# Altium footprint library ICs.PcbLib: 32 footprints (part 1 of 2)
Each footprint in its own frame and in the unit in brackets; x right, y up, seen from the top. Pads: shape width x height; smd on the part's side, far side on the other; paste and mask are expansions set on the pad; w line width, h text height; cw(c..) or ccw(c..) is an arc to the next point about the centre after c.
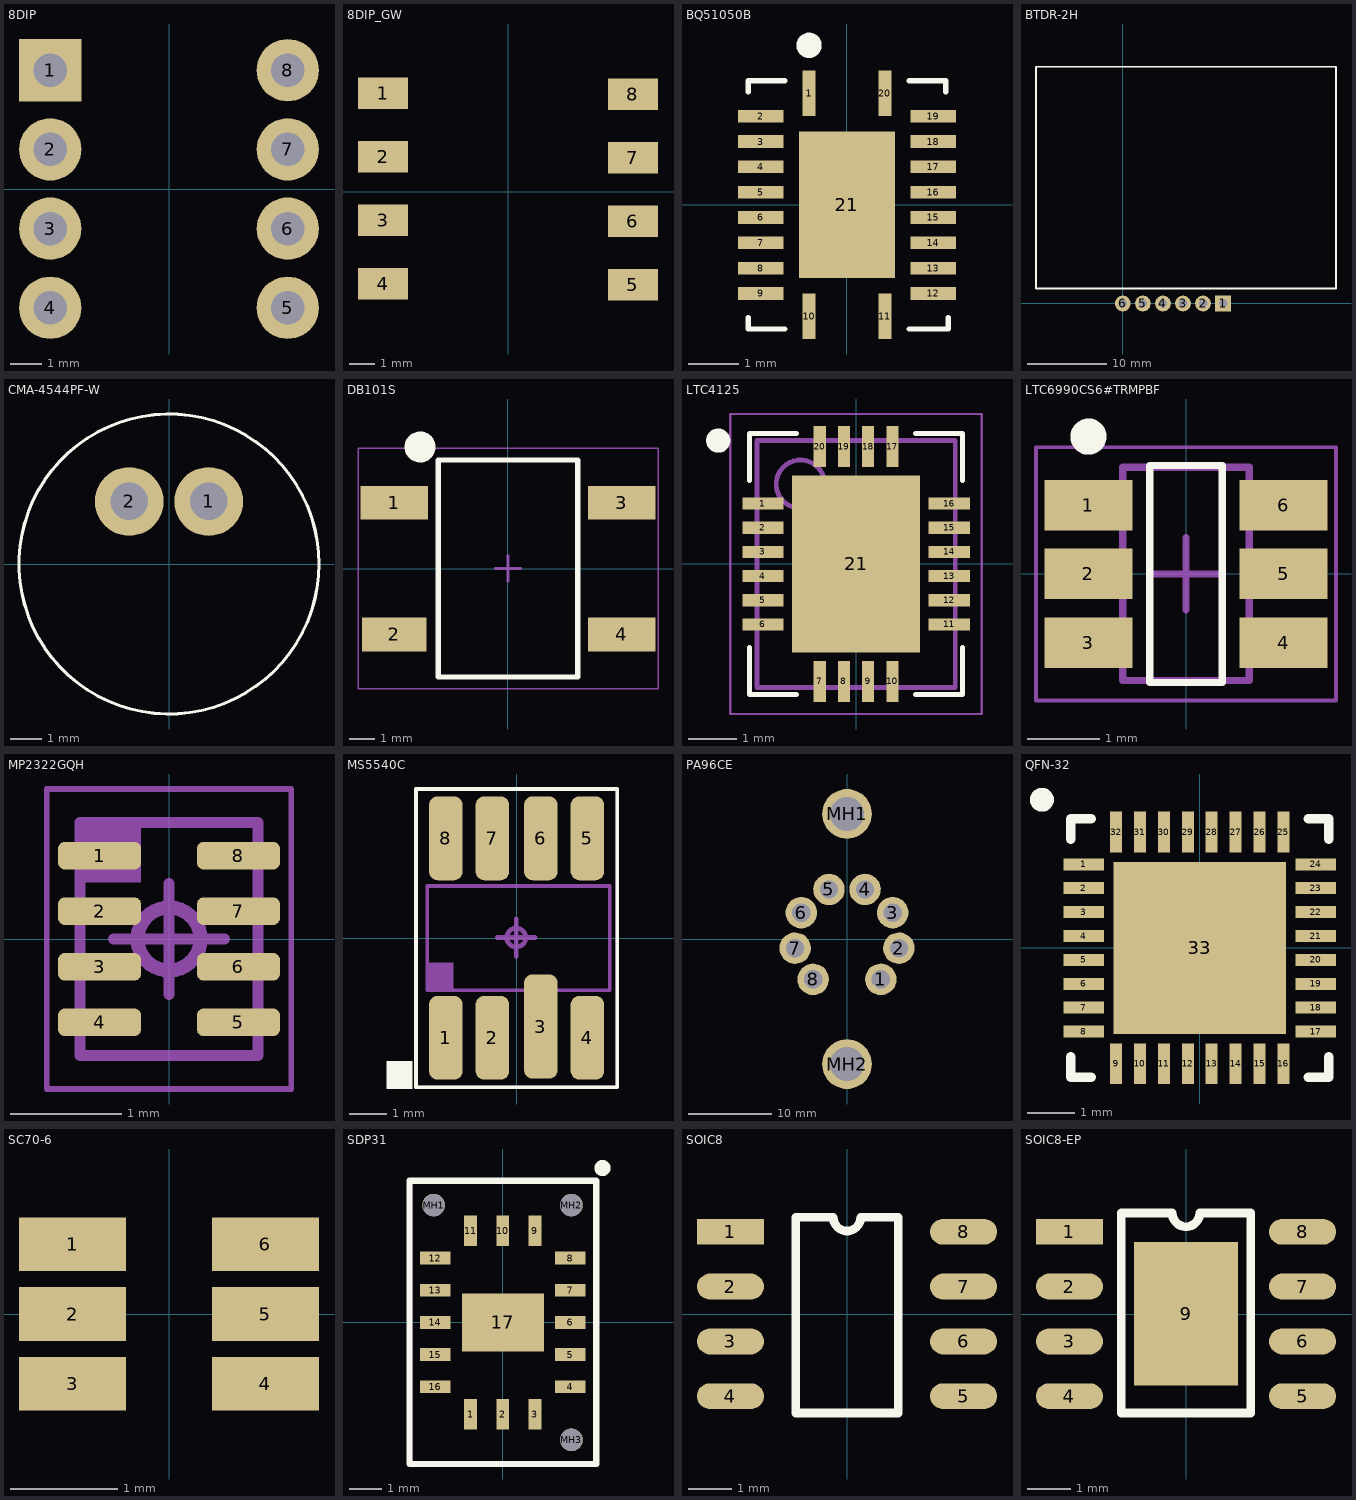
[diagram p0: the footprints below, top view; thin cyan lines are the x and y axes]

## 8DIP [mm] "8DIP"
pads (8):
  rect 2x2 hole 1.08 mask+0.05: 1(-3.81,3.81)
  round 2 hole 1.08 mask+0.05: 2(-3.81,1.27) 3(-3.81,-1.27) 4(-3.81,-3.81) 5(3.81,-3.81) 6(3.81,-1.27) 7(3.81,1.27) 8(3.81,3.81)
3D body "DIP8.STEP": height 3.85, standoff -2, extent -3.935,-4.6 3.935,4.6

## 8DIP_GW [mm] "8DIP_GW"
pads (8):
  rect 2x1.27 smd mask+0.05: 1(-5,3.937) 2(-5,1.397) 3(-5,-1.143) 4(-5,-3.683) 5(5,-3.72) 6(5,-1.18) 7(5,1.36) 8(5,3.9)
3D body "8DIP_GW.STEP": height 4.35, standoff 0.02, extent -4.823,-4.826 5.077,5.074

## BQ51050B [mm] "BQ51050B"
height 1
pads (21):
  rect 0.25x0.9 smd mask+0.05: 1(-0.75,2.2) 10(-0.75,-2.2) 11(0.75,-2.2) 20(0.75,2.2)
  rect 0.9x0.25 smd mask+0.05: 2(-1.7,1.75) 3(-1.7,1.25) 4(-1.7,0.75) 5(-1.7,0.25) 6(-1.7,-0.25) 7(-1.7,-0.75) 8(-1.7,-1.25) 9(-1.7,-1.75) 12(1.7,-1.75) 13(1.7,-1.25) 14(1.7,-0.75) 15(1.7,-0.25) 16(1.7,0.25) 17(1.7,0.75) 18(1.7,1.25) 19(1.7,1.75)
  rect 1.9x2.9 smd paste-100 mask+0.05: 21(0,0)
Top Overlay:
  circle w0.25: c-0.75,3.15 r0.125
  lines w0.1: -1.95,-2.225 -1.95,-2.45 -1.225,-2.45 ; -1.95,2.225 -1.95,2.45 -1.225,2.45 ; 1.225,-2.45 1.95,-2.45 ; 1.225,2.45 1.95,2.45 1.95,2.225 ; 2,-2.45 2,-2.225
Top Paste:
  rectangle: -0.9,-1.4 -0.1,-0.2
  region: 0.9,-0.2 0.1,-0.2 0.1,-1.4 0.9,-1.4
  region: 0.9,1.4 0.1,1.4 0.1,0.2 0.9,0.2
  rectangle: -0.899,0.206 -0.099,1.4
3D body "QFN50P350X450X100_HS-21N.step": height 1, standoff 0, extent -1.88,-2.38 1.88,2.38

## BTDR-2H [mm] "BTDR-2H"
pads (6):
  rect 2x2 hole 1.08 mask+0.05: 1(12.7,0)
  round 2 hole 1.08 mask+0.05: 2(10.16,0) 3(7.62,0) 4(5.08,0) 5(2.54,0) 6(0,0)
Top Overlay:
  lines w0.2: -11,1.9 27,1.9 ; -11,2 -11,30 27,30 27,2
3D body: height 11, standoff 0, extent -11,1.872 27.128,30

## CMA-4544PF-W [mm] "CMA-4544PF-W Mic"
pads (2):
  round 2.2 hole 1.2: 1(1.27,2) 2(-1.27,2)
Top Overlay:
  circle w0.1: c0,0 r4.8
3D body "CUI_DEVICES_CMA-4544PF-W.step": height 4.7, standoff -4.5, extent -4.85,-4.85 4.85,4.85

## DB101S [mm] "Diodes rectifier 50V 1A"
height 2.65
pads (4):
  rect 2.6x1.3 smd: 1(-4.4,2.55) 3(4.4,2.55) 4(4.4,-2.55)
  rect 2.5x1.3 smd: 2(-4.4,-2.55)
Top Overlay:
  circle w0.6: c-3.4,4.7 r0.3
  lines w0.2: -2.7,-4.2 -2.7,4.2 2.7,4.2 2.7,-4.2 -2.7,-4.2
Mechanical 16:
  lines w0.05: -5.8,-4.65 -5.8,4.65 5.8,4.65 5.8,-4.65 -5.8,-4.65
  lines w0.1: -0.5,0 0.5,0 ; 0,-0.5 0,0.5
3D body "SOP510P990X265-4N.step": height 2.65, standoff 0, extent -4.95,-4.4 4.95,4.4

## LTC4125 [mm] "QFN, 20-Leads, Body 4,00x5,00mm, Pitch 0,50mm, Thermal Pad 2,65x3,65mm, IPC Medium Density"
height 0.75
pads (21):
  rect 0.85x0.25 smd: 1(-1.925,1.25) 2(-1.925,0.75) 3(-1.925,0.25) 4(-1.925,-0.25) 5(-1.925,-0.75) 6(-1.925,-1.25) 11(1.925,-1.25) 12(1.925,-0.75) 13(1.925,-0.25) 14(1.925,0.25) 15(1.925,0.75) 16(1.925,1.25)
  rect 0.25x0.85 smd: 7(-0.75,-2.425) 8(-0.25,-2.425) 9(0.25,-2.425) 10(0.75,-2.425) 17(0.75,2.425) 18(0.25,2.425) 19(-0.25,2.425) 20(-0.75,2.425)
  rect 2.65x3.65 smd: 21(0,0)
Top Overlay:
  circle w0.25: c-2.85,2.55 r0.125
  lines w0.1: -2.2,-1.725 -2.2,-2.7 -1.225,-2.7 ; -2.2,1.725 -2.2,2.7 -1.225,2.7 ; 1.225,-2.7 2.2,-2.7 2.2,-1.725 ; 1.225,2.7 2.2,2.7 2.2,1.725
Mechanical 13:
  circle w0.1: c-1.15,1.65 r0.5
  lines w0.1: -2.05,-2.55 -2.05,2.55 2.05,2.55 2.05,-2.55 -2.05,-2.55
Mechanical 15:
  lines w0.05: -2.6,-3.1 -2.6,3.1 2.6,3.1 2.6,-3.1 -2.6,-3.1
  lines w0.1: -0.5,0 0.5,0 ; 0,-0.5 0,0.5
3D body "LTC4125.step": height 0.75, standoff 0, extent -2.1,-2.6 2.1,2.6

## LTC6990CS6#TRMPBF [mm] "SOT23, 6-Leads, Body 2,90x2,80mm, Pitch 0,95mm, IPC Medium Density"
height 1
pads (6):
  rect 1.22x0.7 smd mask+0.05: 1(-1.35,0.95) 2(-1.35,0) 3(-1.35,-0.95) 4(1.35,-0.95) 5(1.35,0) 6(1.35,0.95)
Top Overlay:
  circle w0.25: c-1.35,1.9 r0.125
  lines w0.1: -0.5,-1.5 -0.5,1.5 0.5,1.5 0.5,-1.5 -0.5,-1.5
Mechanical 13:
  lines w0.1: -0.875,-1.475 0.875,-1.475 0.875,1.475 -0.875,1.475 -0.875,-1.475
Mechanical 15:
  lines w0.05: -2.075,-1.75 2.075,-1.75 2.075,1.75 -2.075,1.75 -2.075,-1.75
  lines w0.1: -0.5,0 0.5,0 ; 0,-0.5 0,0.5
3D body "LTC6990CS6#TRMPBF.step": height 1, standoff 0, extent -1.4,-1.475 1.4,1.475

## MP2322GQH [mm] "MP2322GQH"
pads (8):
  rrect50% 0.75x0.25 smd mask+0.05: 1(-0.625,0.75) 2(-0.625,0.25) 3(-0.625,-0.25) 4(-0.625,-0.75) 5(0.625,-0.75) 6(0.625,-0.25) 7(0.625,0.25) 8(0.625,0.75)
Mechanical 13:
  rectangle: -0.8,0.508 -0.254,1.05
  lines w0.1: -0.8,-1.05 -0.8,1.05 0.8,1.05 0.8,-1.05 -0.8,-1.05
Mechanical 15:
  circle w0.127: c0,0 r0.284
  lines w0.05: -1.1,-1.35 -1.1,1.35 1.1,1.35 1.1,-1.35 -1.1,-1.35
  lines w0.1: -0.5,0 0.5,0 ; 0,-0.5 0,0.5
3D body "QFN50P150X200X90-8L.step": height 0.9, standoff 0, extent -0.801,-1.05 0.801,1.05

## MS5540C [mm] "MS5540C"
pads (8):
  rrect50% 0.9x2.25 smd mask+0.05: 1(-1.9,-2.675) 2(-0.65,-2.675) 4(1.9,-2.675) 5(1.9,2.675) 6(0.65,2.675) 7(-0.65,2.675) 8(-1.9,2.675)
  rrect50% 0.9x2.8 smd mask+0.05: 3(0.65,-2.375)
Top Overlay:
  rectangle: -3.488,-4.05 -2.8,-3.3
  lines w0.1: -2.7,-4 2.7,-4 2.7,4 -2.7,4 -2.7,-4
Mechanical 13:
  rectangle: -2.388,-1.4 -1.7,-0.65
  lines w0.1: -2.4,-1.4 2.5,-1.4 2.5,1.4 -2.4,1.4 -2.4,-1.4
Mechanical 15:
  circle w0.127: c-0.011,0.013 r0.254
  lines w0.1: -2.7,-4 -2.7,4 2.7,4 2.7,-4 -2.7,-4
  lines w0.127: -0.519,0.013 0.497,0.013 ; -0.011,-0.495 -0.011,0.521

## PA96CE [mm] "APEX TO-3"
pads (10):
  round 3.8 hole 2.2: 1(4.082,-4.864) 2(6.254,-1.103) 3(5.499,3.175) 4(2.172,5.967) 5(-2.172,5.967) 6(-5.499,3.175) 7(-6.254,-1.103) 8(-4.082,-4.864)
  round 6 hole 4.1: MH1(0,15.075) MH2(0,-15.075)
3D body "TO-3 8 pins.stp": height 34.34, standoff -11.86, extent -22.998,-25.583 20.365,26.948

## QFN-32 [mm] "QFN-32"
height 1
pads (33):
  rect 0.85x0.25 smd: 1(-2.425,1.75) 2(-2.425,1.25) 3(-2.425,0.75) 4(-2.425,0.25) 5(-2.425,-0.25) 6(-2.425,-0.75) 7(-2.425,-1.25) 8(-2.425,-1.75) 17(2.425,-1.75) 18(2.425,-1.25) 19(2.425,-0.75) 20(2.425,-0.25) 21(2.425,0.25) 22(2.425,0.75) 23(2.425,1.25) 24(2.425,1.75)
  rect 0.25x0.85 smd: 9(-1.75,-2.425) 10(-1.25,-2.425) 11(-0.75,-2.425) 12(-0.25,-2.425) 13(0.25,-2.425) 14(0.75,-2.425) 15(1.25,-2.425) 16(1.75,-2.425) 25(1.75,2.425) 26(1.25,2.425) 27(0.75,2.425) 28(0.25,2.425) 29(-0.25,2.425) 30(-0.75,2.425) 31(-1.25,2.425) 32(-1.75,2.425)
  rect 3.6x3.6 smd: 33(0,0)
Top Overlay:
  circle w0.25: c-3.3,3.1 r0.125
  lines w0.2: -2.7,-2.275 -2.7,-2.7 -2.275,-2.7 ; -2.7,2.275 -2.7,2.7 -2.275,2.7 ; 2.275,-2.7 2.7,-2.7 2.7,-2.275 ; 2.275,2.7 2.7,2.7 2.7,2.275
3D body "QFN-32.step": height 1, standoff 0, extent -2.6,-2.6 2.6,2.6

## SC70-6 [mm] "SC70-6"
pads (6):
  rect 1x0.5 smd paste+0.01 mask+0.05: 1(-0.9,0.65) 2(-0.9,0) 3(-0.9,-0.65) 4(0.9,-0.65) 5(0.9,0) 6(0.9,0.65)
Top Overlay:
  text "." at -1.646,1.154 h0.5
3D body "SC70-6.step": height 1.1, standoff 0, extent -1.05,-1 1.05,1

## SDP31 [mm] "Sensirion Differential Pressure IC"
height 0.8
pads (20):
  rect 0.4x0.95 smd: 1(-1,-2.85) 2(0,-2.85) 3(1,-2.85) 9(1,2.85) 10(0,2.85) 11(-1,2.85)
  rect 0.95x0.4 smd: 4(2.1,-2) 5(2.1,-1) 6(2.1,0) 7(2.1,1) 8(2.1,2) 12(-2.1,2) 13(-2.1,1) 14(-2.1,0) 15(-2.1,-1) 16(-2.1,-2)
  rect 2.55x1.8 smd: 17(0,0)
  round 0.7 hole 0.7: MH1(-2.15,3.65) MH2(2.133,3.65) MH3(2.133,-3.65)
Top Overlay:
  circle w0.25: c3.1,4.8 r0.125
  lines w0.2: -2.9,-4.4 -1.6,-4.4 2.9,-4.4 2.9,4.4 -2.9,4.4 -2.9,-4.4
Mechanical 15:
  lines w0.05: -2.825,-4.4 2.825,-4.4 2.825,4.4 -2.825,4.4 -2.825,-4.4
  lines w0.1: -0.5,0 0.5,0 ; 0,-0.5 0,0.5
3D body "SDP3x-Digital.STEP": height 4.4, standoff -0.75, extent -2.75,-4.25 2.75,4.25

## SOIC8 [mm]
pads (8):
  rect 1.55x0.6 smd: 1(-2.7,1.905)
  oval 1.55x0.6 smd: 2(-2.7,0.635) 3(-2.7,-0.635) 4(-2.7,-1.905) 5(2.7,-1.905) 6(2.7,-0.635) 7(2.7,0.635) 8(2.7,1.905)
Top Overlay:
  lines w0.2: -1.19,-2.295 -1.19,2.24 -0.318,2.24 ccw(c0,2.24) 0.318,2.24 1.19,2.24 1.19,-2.295 -1.19,-2.295
3D body "SOIC8-150-50.STEP": height 1.91, standoff 0, extent -3.033,-2.45 2.967,2.45

## SOIC8-EP [mm] "SOIC8-EP"
pads (9):
  rect 1.55x0.6 smd mask+0.05: 1(-2.7,1.905)
  oval 1.55x0.6 smd mask+0.05: 2(-2.7,0.635) 3(-2.7,-0.635) 4(-2.7,-1.905) 5(2.7,-1.905) 6(2.7,-0.635) 7(2.7,0.635) 8(2.7,1.905)
  rect 2.4x3.325 smd mask+0.05: 9(0,0.005)
Top Overlay:
  lines w0.2: -1.5,-2.295 -1.5,2.34 -0.318,2.34 ccw(c0,2.34) 0.318,2.34 1.5,2.34 1.5,-2.295 -1.5,-2.295
3D body "SOIC8-150-50.STEP": height 1.91, standoff 0, extent -3.033,-2.45 2.967,2.45